# Altium footprint library DW08R.PcbLib: 1 footprints
Each footprint in its own frame and in the unit in brackets; x right, y up, seen from the top. Pads: shape width x height; smd on the part's side, far side on the other; paste and mask are expansions set on the pad; w line width, h text height; cw(c..) or ccw(c..) is an arc to the next point about the centre after c.
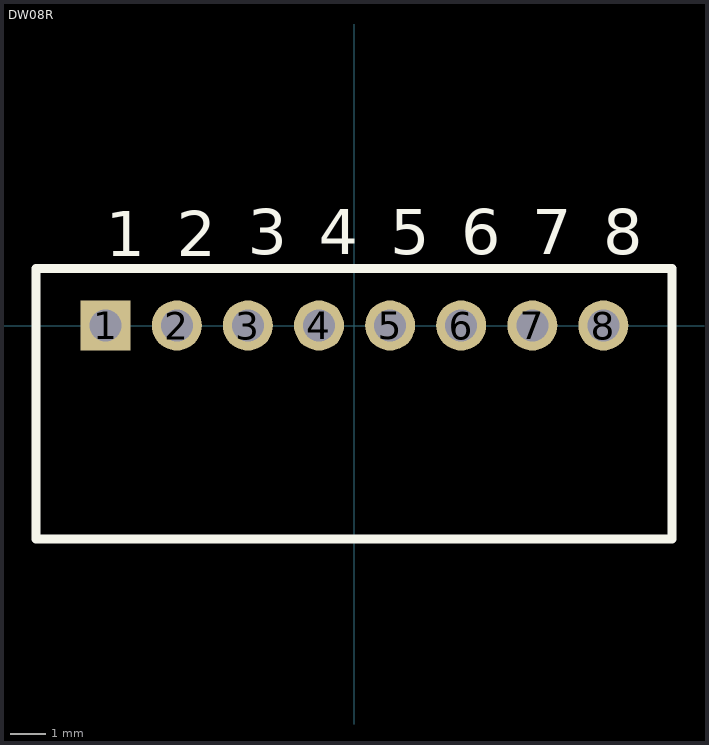
[diagram p0: the footprint, top view; thin cyan lines are the x and y axes]

## DW08R [mm]
pads (8):
  rect 1.408x1.408 / inner round 1.408 / far side rect 1.408x1.408 hole 0.9: 1(-6.985,0)
  round 1.408 hole 0.9: 2(-4.985,0) 3(-2.985,0) 4(-0.985,0) 5(1.015,0) 6(3.015,0) 7(5.015,0) 8(7.015,0)
Top Overlay:
  lines w0.254: -8.95,-6 8.95,-6 8.95,1.6 -8.95,1.6 -8.95,-6
  text "1" at -6.985,1.952 h1.27
  text "2" at -4.985,1.952 h1.27
  text "3" at -2.985,2.002 h1.27
  text "4" at -0.985,2.002 h1.27
  text "5" at 1.015,2.002 h1.27
  text "6" at 3.015,2.002 h1.27
  text "7" at 5.015,2.002 h1.27
  text "8" at 7.015,2.002 h1.27
3D body "step_temp.STEP": height 4.8, standoff -3.4, extent -8.95,-6.25 8.95,1.35